# Altium footprint library CON_2Pin Header.PcbLib: 1 footprints
Each footprint in its own frame and in the unit in brackets; x right, y up, seen from the top. Pads: shape width x height; smd on the part's side, far side on the other; paste and mask are expansions set on the pad; w line width, h text height; cw(c..) or ccw(c..) is an arc to the next point about the centre after c.
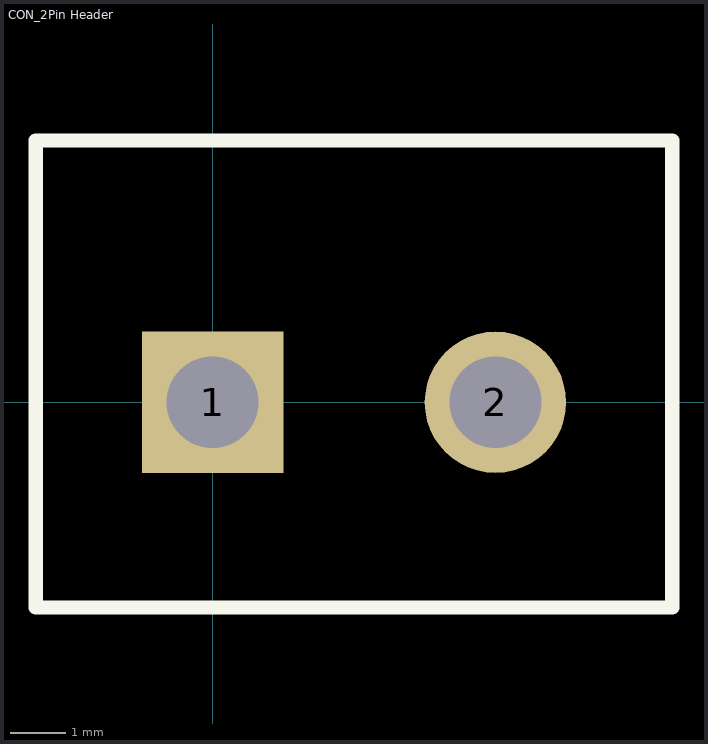
[diagram p0: the footprint, top view; thin cyan lines are the x and y axes]

## CON_2Pin Header [mil] "Two Pin Header"
pads (2):
  rect 100x100 hole 65: 1(0,0)
  round 100 hole 65: 2(200,0)
Top Overlay:
  lines w10: -125,-145 -125,185 325,185 325,-145 -125,-145
3D body: height 469, standoff -170, extent -125,-145 325,186